# Altium footprint library SOL-8.PcbLib: 1 footprints
Each footprint in its own frame and in the unit in brackets; x right, y up, seen from the top. Pads: shape width x height; smd on the part's side, far side on the other; paste and mask are expansions set on the pad; w line width, h text height; cw(c..) or ccw(c..) is an arc to the next point about the centre after c.
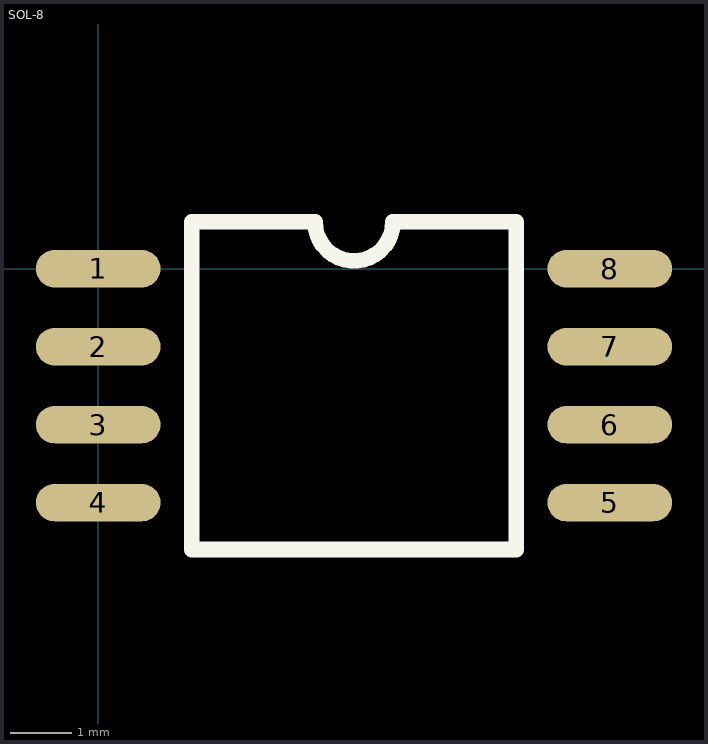
[diagram p0: the footprint, top view; thin cyan lines are the x and y axes]

## SOL-8 [mil]
pads (8):
  oval 80x24 smd: 1(0,0) 2(0,-50) 3(0,-100) 4(0,-150) 5(328,-150) 6(328,-100) 7(328,-50) 8(328,0)
TopOverlay:
  lines w10: 60,-180 60,30 85,30 139,30 ccw(c164,30) 189,30 268,30 268,-180 60,-180
Mechanical4:
  text ".065" at -0.44,0.48 h1
  text ".062" at 0,0 h1
3D body: height 90.52, standoff -0.81, extent -0.49,-180.41 329.92,31.4